# Altium schematic symbol library IS42S16800F-7BLI.SchLib: 1 symbol
Pins are listed as number, name and electrical type; pins without a type are passive.

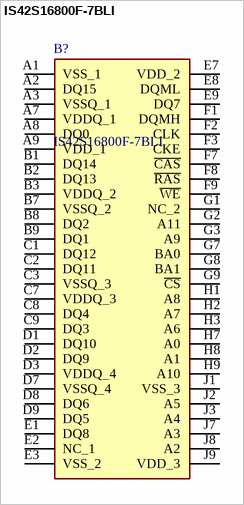
[diagram p0: symbol IS42S16800F-7BLI]

## IS42S16800F-7BLI
designator B?
DRAM Chip SDRAM 128Mbit 8Mx16 3.3V 54-Pin TFBGA; Manufacturer_Name: Integrated Silicon Solution Inc.; Geometry.Height: 1.2mm; Manufacturer_Part_Number: IS42S16800F-7BLI; Mouser Part Number: 870-IS42S16800F-7BLI; Mouser Price/Stock: https://www.mouser.co.uk/ProductDetail/ISSI/IS42S16800F-7BLI?qs=DfG0HhEx1UUZ0TMKnBVX5A%3D%3D; Arrow Part Number: IS42S16800F-7BLI; Arrow Price/Stock: https://www.arrow.com/en/products/is42s16800f-7bli/integrated-silicon-solution-inc; Datasheet Link: https://www.mouser.com/datasheet/2/198/42-45S81600F-16800F-258526.pdf
footprint BGA54C80P9X9_800X800X120
pins: A1 VSS_1, A2 DQ15, A3 VSSQ_1, A7 VDDQ_1, A8 DQ0, A9 VDD_1, B1 DQ14, B2 DQ13, B3 VDDQ_2, B7 VSSQ_2, B8 DQ2, B9 DQ1, C1 DQ12, C2 DQ11, C3 VSSQ_3, C7 VDDQ_3, C8 DQ4, C9 DQ3, D1 DQ10, D2 DQ9, D3 VDDQ_4, D7 VSSQ_4, D8 DQ6, D9 DQ5, E1 DQ8, E2 NC_1, E3 VSS_2, E7 VDD_2, E8 DQML, E9 DQ7, F1 DQMH, F2 CLK, F3 CKE, F7 ~{CAS}, F8 ~{RAS}, F9 ~{WE}, G1 NC_2, G2 A11, G3 A9, G7 BA0, G8 BA1, G9 ~{CS}, H1 A8, H2 A7, H3 A6, H7 A0, H8 A1, H9 A10, J1 VSS_3, J2 A5, J3 A4, J7 A3, J8 A2, J9 VDD_3